# Altium integrated library Ferrite Bead.IntLib: 2 symbols
Pins are listed as number, name and electrical type; pins without a type are passive.

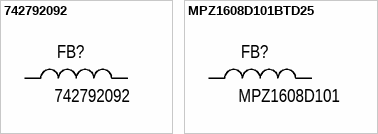
[diagram p0: symbols 742792092 to MPZ1608D101BTD25]

## 742792092
designator FB?
2 kOhms @ 100 MHz 1 Signal Line Ferrite Bead 0805 (2012 Metric) 200mA 600mOhm; Manufacture: Würth Elektronik; Name: Ферритовая бусина; Model: 742792092; HelpURL: https://www.digikey.com/en/products/detail/w%C3%BCrth-elektronik/742792092/4310370?s=N4IgTCBcDaIOwBYxwJxgAxoARZAXQF8g; Case: 0805; Value: 742792092
footprint R0805
pins: 1, 2

## MPZ1608D101BTD25
designator FB?, comment MPZ1608D101
100 Ohms @ 100 MHz 1 Power Line Ferrite Bead 0603 (1608 Metric) 1A 150mOhm; Manufacture: TDK Corporation; Model: MPZ1608D101BTD25; Name: Ферритовая бусина; HelpURL: https://www.digikey.com/en/products/detail/tdk-corporation/MPZ1608D101BTD25/5040308; Case: 0603; Value: MPZ1608D101
footprint R0603
pins: 1, 2